# Altium footprint library DFN-5(5.15X6.15).PcbLib: 1 footprints
Each footprint in its own frame and in the unit in brackets; x right, y up, seen from the top. Pads: shape width x height; smd on the part's side, far side on the other; paste and mask are expansions set on the pad; w line width, h text height; cw(c..) or ccw(c..) is an arc to the next point about the centre after c.
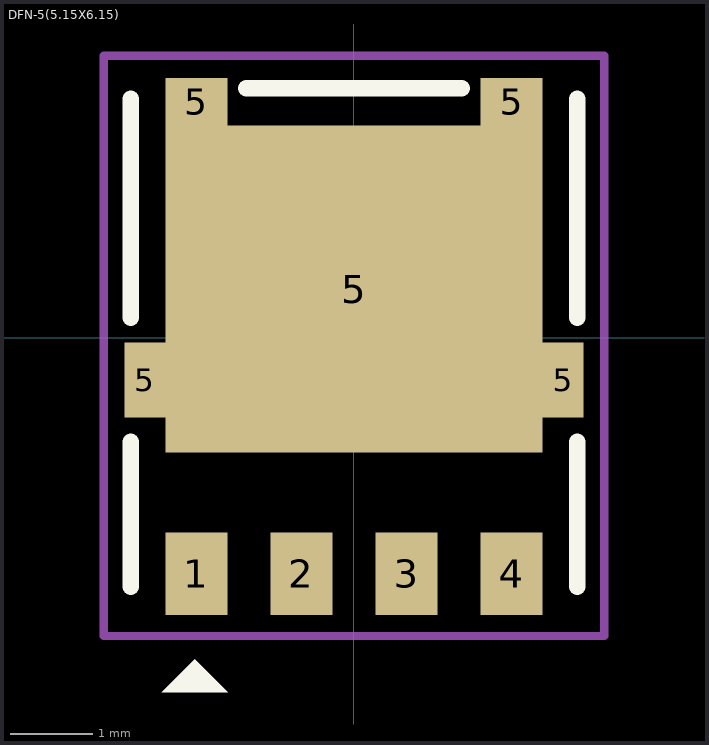
[diagram p0: the footprint, top view; thin cyan lines are the x and y axes]

## DFN-5(5.15X6.15) [mm]
pads (9):
  rect 0.75x1 smd: 1(-1.905,-2.854) 2(-0.635,-2.854) 3(0.635,-2.854) 4(1.905,-2.854)
  rect 0.495x0.905 smd: 5(-2.527,-0.511) 5(2.528,-0.511)
  rect 0.75x0.575 smd: 5(-1.905,2.854) 5(1.905,2.854)
  rect 4.56x3.955 smd paste-3: 5(0,0.589)
Top Overlay:
  region: -1.525,-4.284 -2.325,-4.284 -1.925,-3.884
  lines w0.2: -2.7,-3.009 -2.7,-1.259 ; -2.7,0.241 -2.7,2.891 ; -1.3,3.016 1.3,3.016 ; 2.7,-3.009 2.7,-1.259 ; 2.7,0.241 2.7,2.891
Top Paste:
  region: 1.25,-0.836 -1.251,-0.836 -1.251,2.048 1.25,2.048
Top Courtyard:
  lines w0.1: -3.025,-3.604 3.025,-3.604 3.025,-1.214 3.025,0.191 3.025,3.409 -3.025,3.409 -3.025,0.191 -3.025,-1.214 -3.025,-3.604
3D body "step_temp.STEP": height 1.1, standoff 0, extent -2.575,-3.134 2.575,3.016